# Altium schematic symbol library Capacitors.SchLib: 161 symbols (part 3 of 6)
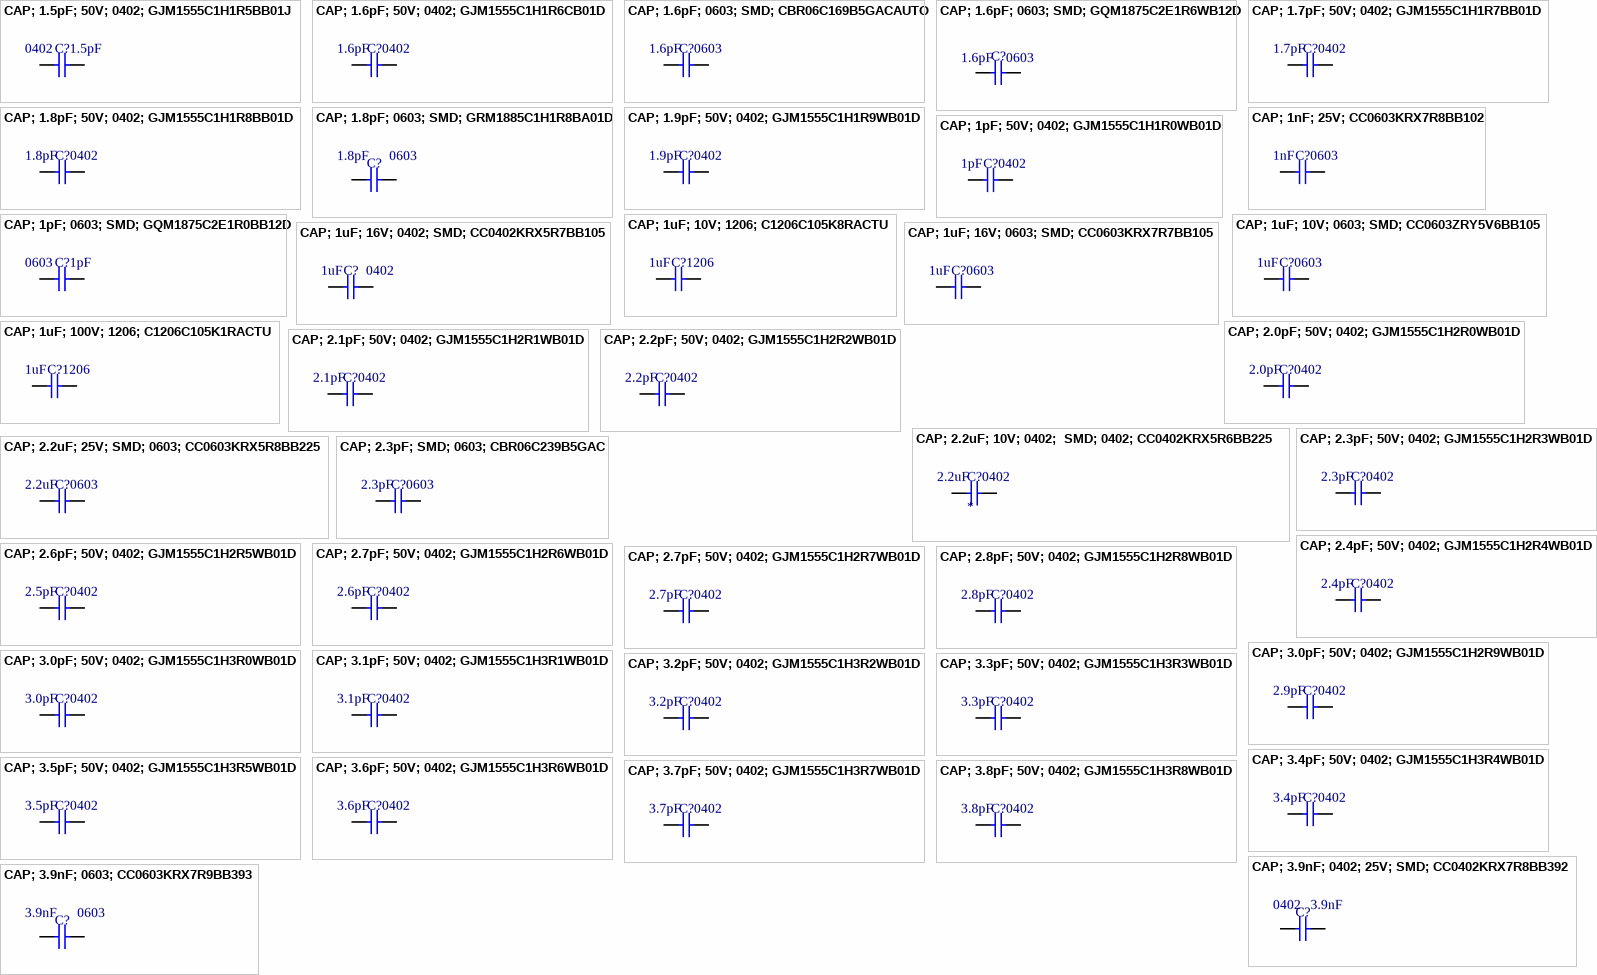
[diagram p6: symbols CAP; 1.5pF; 50V; 0402; GJM1555C1H1R5BB01J to CAP; 3.9nF; 0603; CC0603KRX7R9BB393]

## CAP; 2.2pF; 50V; 0402; GJM1555C1H2R2WB01D
designator C?, comment value 2.2pF  Package: 0402  (hidden comment: CAP CER 2.2PF 50V C0G/NP0 0402)
Manufacturer: Murata; Manufacturer Part Number: GJM1555C1H2R2WB01D; Material: 4241ConductorMaterial; Dielectric: C0G; Temperature Coefficient: 30ppm/°C; Supplier: Mouser; Supplier Part Number: 81-GJM1555C1H2R2WB1D; RoHS: Yes; Category: Ceramic Capacitors; Stock: 25459; Pricing: 1=0.16, 10=0.097, 50=0.097, 100=0.046, 1000=0.044, 10000=0.021 (USD); Mounting Technology: Surface Mount; Case/Package: 0402; Case Code (Imperial): 0402; Case Code (Metric): 1005; Min Operating Temperature: -55°C; Max Operating Temperature: 125°C; Package Quantity: 10000; Packaging: Tape and Reel; Voltage Rating: 50V; Termination: SMD/SMT; Voltage Rating (DC): 50V; Series: GJM; Construction: Flat; Length: 0.039inch; Width: 0.02inch; Height: 0.5mm; Thickness: 0.022inch; Depth: 0.5mm; Radiation Hardening: No; Lead Free: Lead Free; RoHS Compliant: Yes; ComponentLink1URL: http://www.farnell.com/datasheets/2867764.pdf?src-supplier=Farnell; ComponentLink1Description: http://www.farnell.com/datasheets/2867764.pdf?src-supplier=Farnell; ComponentLink2URL: http://www.mouser.com/ds/2/281/c02e-2905.pdf?src-supplier=Mouser; ComponentLink2Description: http://www.mouser.com/ds/2/281/c02e-2905.pdf?src-supplier=Mouser; ComponentLink3URL: https://datasheet.octopart.com/GJM1555C1H2R2WB01D-Murata-datasheet-22122223.pdf?src-supplier=Future+Electronics; ComponentLink3Description: https://datasheet.octopart.com/GJM1555C1H2R2WB01D-Murata-datasheet-22122223.pdf?src-supplier=Future+Electronics; ComponentLink4URL: https://datasheet.octopart.com/GJM1555C1H2R2WB01D-Murata-datasheet-96711499.pdf?src-supplier=Element14; ComponentLink4Description: https://datasheet.octopart.com/GJM1555C1H2R2WB01D-Murata-datasheet-96711499.pdf?src-supplier=Element14; ComponentLink5URL: http://search.murata.co.jp/Ceramy/image/img/A01X/G101/ENG/GJM1555C1H2R2WB01-01.pdf?src-supplier=Digikey; ComponentLink5Description: http://search.murata.co.jp/Ceramy/image/img/A01X/G101/ENG/GJM1555C1H2R2WB01-01.pdf?src-supplier=Digikey; ComponentLink6URL: http://search.murata.co.jp/Ceramy/image/img/A01X/partnumbering_e_01.pdf?src-supplier=Digikey; ComponentLink6Description: http://search.murata.co.jp/Ceramy/image/img/A01X/partnumbering_e_01.pdf?src-supplier=Digikey; ComponentLink7URL: http://search.murata.co.jp/Ceramy/image/img/PDF/ENG/GJM1555C1H2R2WB01.pdf?src-supplier=Avnet; ComponentLink7Description: http://search.murata.co.jp/Ceramy/image/img/PDF/ENG/GJM1555C1H2R2WB01.pdf?src-supplier=Avnet; ComponentLink8URL: https://datasheet.octopart.com/GJM1555C1H2R2WB01D-Murata-datasheet-12511495.pdf?src-supplier=TME; ComponentLink8Description: https://datasheet.octopart.com/GJM1555C1H2R2WB01D-Murata-datasheet-12511495.pdf?src-supplier=TME
footprint SMD-CAP-0402-ME
pins: 1, 2

## CAP; 2.2uF; 10V; 0402;  SMD; 0402; CC0402KRX5R6BB225
designator C?  value 2.2uF  Package: 0402
CC Series 0402 2.2 uF 10 V ±10% Tolerance X5R Multilayer Ceramic Capacitor; Manufacturer: Yageo; Manufacturer Part Number: CC0402KRX5R6BB225; Material: 4241ConductorMaterial; Temperature Coefficient: 30ppm/°C; Supplier: Future Electronics; Supplier Part Number: 8108657; RoHS: Yes; Category: Ceramic Capacitors; Stock: 330000; Pricing: 10000=0.0082, 30000=0.008, 40000=0.0079, 100000=0.0077, 150000=0.0075 (USD); Lead Free: 5697LeadFree; Halogen Free: 5694HalogenFree; RoHS Compliant: 5897YesNo; ComponentLink1URL: http://www.mouser.com/ds/2/447/Yageo_UPY-GP_NP0_16V-to-50V_9-358835.pdf?src-supplier=Mouser; ComponentLink1Description: http://www.mouser.com/ds/2/447/Yageo_UPY-GP_NP0_16V-to-50V_9-358835.pdf?src-supplier=Mouser; ComponentLink2URL: https://datasheet.octopart.com/CC0402KRX5R6BB225-Yageo-datasheet-140260304.pdf?src-supplier=Newark; ComponentLink2Description: https://datasheet.octopart.com/CC0402KRX5R6BB225-Yageo-datasheet-140260304.pdf?src-supplier=Newark; ComponentLink3URL: https://www.yageo.com/upload/media/product/productsearch/datasheet/mlcc/UPY-GPHC_X5R_4V-to-50V_26.pdf?src-supplier=Digikey; ComponentLink3Description: https://www.yageo.com/upload/media/product/productsearch/datasheet/mlcc/UPY-GPHC_X5R_4V-to-50V_26.pdf?src-supplier=Digikey; ComponentLink4URL: http://www.yageo.com/exep/pages/download/literatures/ProductSelectionGuide%202014_Final_2.pdf?src-supplier=Digikey; ComponentLink4Description: http://www.yageo.com/exep/pages/download/literatures/ProductSelectionGuide%202014_Final_2.pdf?src-supplier=Digikey
footprint SMD-CAP-0402-YAGEO
pins: 1, 2

## CAP; 2.2uF; 25V; SMD; 0603; CC0603KRX5R8BB225
designator C?, comment value 2.2uF  Package: 0603  (hidden comment: 2.2 µF ±10% 25V Ceramic Capacitor X5R 0603 (1608 Metric))
0603 2.2 uF 25 V ±10% Tolerance X5R SMT Multilayer Ceramic Capacitor; Manufacturer: Yageo; Manufacturer Part Number: CC0603KRX5R8BB225; Material: 4241ConductorMaterial; Designer: TVBac; Supplier: Future Electronics; Supplier Part Number: 2077058; RoHS: Yes; Category: Ceramic Capacitors; Stock: 108000; Pricing: 4000=0.0441, 8000=0.0434, 12000=0.0429, 16000=0.0426, 20000=0.0417 (USD); Height: 900um; Halogen Free: 5694HalogenFree; Lead Free: 5697LeadFree; ComponentLink1URL: https://datasheet.ciiva.com/26936/getdatasheetpartid-782757-26936061.pdf?src-supplier=Verical; ComponentLink1Description: https://datasheet.ciiva.com/26936/getdatasheetpartid-782757-26936061.pdf?src-supplier=Verical
footprint SMD-CAP-0603-YAGEO
pins: 1, 2

## CAP; 2.3pF; 50V; 0402; GJM1555C1H2R3WB01D
designator C?, comment value 2.3pF  Package: 0402  (hidden comment: Cap Ceramic 2.3pF 50V C0G 0.05pF SMD 0402 125°C Paper T/R)
Manufacturer: Murata; Manufacturer Part Number: GJM1555C1H2R3WB01D; Supplier: Digikey; Supplier Part Number: 490-GJM1555C1H2R3WB01DCT-ND; RoHS: Yes; Category: Ceramic Capacitors; Stock: 6538; Pricing: 1=0.14, 10=0.079, 100=0.0478, 1000=0.03203, 2500=0.02812, 5000=0.02609, 10000=0.02383, 20000=0.02223, 30000=0.02144, 50000=0.02055, 70000=0.02004, 100000=0.01954, 250000=0.01933 (USD); ComponentLink1URL: https://datasheet.ciiva.com/169/product-169614.pdf?src-supplier=Digikey; ComponentLink1Description: https://datasheet.ciiva.com/169/product-169614.pdf?src-supplier=Digikey; Case Code (Imperial): 0402
footprint SMD-CAP-0402-ME
pins: 1, 2

## CAP; 2.3pF; SMD; 0603; CBR06C239B5GAC
designator C?, comment value 2.3pF  Package: 0603  (hidden comment: 2.3 pF ±0.1pF 50V Ceramic Capacitor C0G, NP0 0603 (1608 Metric))
Cap Ceramic 2.3pF 50V C0G 0.1pF SMD 0603 125°C Paper T/R; Manufacturer: KEMET; Manufacturer Part Number: CBR06C239B5GAC; Designer: TVBac; Supplier: Mouser; Supplier Part Number: 80-CBR06C239B5GAC; RoHS: Yes; Category: Ceramic Capacitors; Stock: 14255; Pricing: 1=0.23, 10=0.093, 50=0.093, 100=0.081, 1000=0.055, 10000=0.037 (USD); Mounting Technology: Surface Mount; Case/Package: 0603; Case Code (Imperial): 0603; Case Code (Metric): 1608; Min Operating Temperature: -55°C; Max Operating Temperature: 125°C; Packaging: Cut Tape; Voltage Rating: 50V; Series: HiQ-CBR; RoHS Compliant: Yes; ComponentLink1URL: https://api.kemet.com/component-edge/download/datasheet/CBR06C239B5GAC.pdf?src-supplier=Digikey; ComponentLink1Description: https://api.kemet.com/component-edge/download/datasheet/CBR06C239B5GAC.pdf?src-supplier=Digikey
footprint SMD-CAP-0603-KEMET
pins: 1, 2

## CAP; 2.4pF; 50V; 0402; GJM1555C1H2R4WB01D
designator C?, comment value 2.4pF  Package: 0402  (hidden comment: Multilayer Ceramic Capacitor, 2.4 pF, 50 V, ± 0.05pF, C0G (NP0), 0402 [1005 Metric])
Manufacturer: Murata; Manufacturer Part Number: GJM1555C1H2R4WB01D; Material: 4241ConductorMaterial; Temperature Coefficient: 30ppm/°C; Supplier: Mouser; Supplier Part Number: 81-GJM1555C1H2R4WB1D; RoHS: Yes; Category: Ceramic Capacitors; Stock: 2047; Pricing: 1=0.16, 10=0.081, 50=0.081, 100=0.055, 1000=0.044, 10000=0.022 (USD); Lead Free: 5697LeadFree; ComponentLink1URL: http://www.mouser.com/ds/2/281/Murata%20GJM%20Series-1149669.pdf?src-supplier=Mouser; ComponentLink1Description: http://www.mouser.com/ds/2/281/Murata%20GJM%20Series-1149669.pdf?src-supplier=Mouser; ComponentLink2URL: http://search.murata.co.jp/Ceramy/image/img/PDF/ENG/GJM1555C1H2R4WB01.pdf?src-supplier=Avnet; ComponentLink2Description: http://search.murata.co.jp/Ceramy/image/img/PDF/ENG/GJM1555C1H2R4WB01.pdf?src-supplier=Avnet; ComponentLink3URL: https://search.murata.co.jp/Ceramy/image/img/A01X/G101/ENG/GJM1555C1H2R4WB01-01.pdf?src-supplier=Digikey; ComponentLink3Description: https://search.murata.co.jp/Ceramy/image/img/A01X/G101/ENG/GJM1555C1H2R4WB01-01.pdf?src-supplier=Digikey; ComponentLink4URL: http://search.murata.co.jp/Ceramy/image/img/A01X/G101/ENG/GJM1555C1H2R4WB01-01.pdf?src-supplier=Digikey; ComponentLink4Description: http://search.murata.co.jp/Ceramy/image/img/A01X/G101/ENG/GJM1555C1H2R4WB01-01.pdf?src-supplier=Digikey; ComponentLink5URL: https://datasheet.octopart.com/GJM1555C1H2R4WB01D-Murata-datasheet-22122223.pdf?src-supplier=Future+Electronics; ComponentLink5Description: https://datasheet.octopart.com/GJM1555C1H2R4WB01D-Murata-datasheet-22122223.pdf?src-supplier=Future+Electronics; ComponentLink6URL: https://datasheet.octopart.com/GJM1555C1H2R4WB01D-Murata-datasheet-12511495.pdf?src-supplier=TME; ComponentLink6Description: https://datasheet.octopart.com/GJM1555C1H2R4WB01D-Murata-datasheet-12511495.pdf?src-supplier=TME; Case Code (Imperial): 0402
footprint SMD-CAP-0402-ME
pins: 1, 2

## CAP; 2.6pF; 50V; 0402; GJM1555C1H2R5WB01D
designator C?, comment value 2.5pF  Package: 0402  (hidden comment: Multilayer Ceramic Capacitor, 2.5 pF, 50 V, ± 0.05pF, C0G (NP0), 0402 [1005 Metric])
Manufacturer: Murata; Manufacturer Part Number: GJM1555C1H2R5WB01D; Material: 4241ConductorMaterial; Voltage Rating: 50V; Temperature Coefficient: 30ppm/°C; Supplier: Mouser; Supplier Part Number: 81-GJM1555C1H2R5WB1D; RoHS: Yes; Category: Ceramic Capacitors; Stock: 42973; Pricing: 1=0.13, 10=0.079, 50=0.079, 100=0.046, 1000=0.04, 10000=0.025 (USD); Mounting Technology: Surface Mount; Case/Package: 0402; Case Code (Imperial): 0402; Case Code (Metric): 1005; Min Operating Temperature: -55°C; Max Operating Temperature: 125°C; Voltage Rating (DC): 50V; Packaging: Tape and Reel; Package Quantity: 10000; Dielectric: C0G; Termination: SMD/SMT; Series: GJM; Construction: Flat; Length: 1mm; Width: 0.02inch; Height: 0.5mm; Thickness: 0.022inch; Depth: 0.5mm; Radiation Hardening: No; RoHS Compliant: Yes; ComponentLink1URL: https://datasheet.ciiva.com/169/product-169615.pdf?src-supplier=Digikey; ComponentLink1Description: https://datasheet.ciiva.com/169/product-169615.pdf?src-supplier=Digikey
footprint SMD-CAP-0402-ME
pins: 1, 2

## CAP; 2.7pF; 50V; 0402; GJM1555C1H2R6WB01D
designator C?, comment value 2.6pF  Package: 0402  (hidden comment: Cap Ceramic 2.6pF 50V C0G 0.05pF SMD 0402 125°C Paper T/R)
Manufacturer: Murata; Manufacturer Part Number: GJM1555C1H2R6WB01D; Supplier: Mouser; Supplier Part Number: 81-GJM1555C1H2R6WB1D; RoHS: Yes; Category: Ceramic Capacitors; Stock: 24603; Pricing: 1=0.13, 10=0.078, 50=0.078, 100=0.049, 1000=0.032, 10000=0.022 (USD); ComponentLink1URL: https://datasheet.ciiva.com/169/product-169616.pdf?src-supplier=Digikey; ComponentLink1Description: https://datasheet.ciiva.com/169/product-169616.pdf?src-supplier=Digikey; Case Code (Imperial): 0402
footprint SMD-CAP-0402-ME
pins: 1, 2

## CAP; 2.7pF; 50V; 0402; GJM1555C1H2R7WB01D
designator C?, comment value 2.7pF  Package: 0402  (hidden comment: Multilayer Ceramic Capacitor, 2.7 pF, 50 V, ï¿½ 0.05pF, C0G (NP0), 0402 [1005 Metric])
Manufacturer: Murata; Manufacturer Part Number: GJM1555C1H2R7WB01D; Material: 4241ConductorMaterial; Voltage Rating: 50V; Temperature Coefficient: 30ppm/°C; Supplier: Mouser; Supplier Part Number: 81-GJM1555C1H2R7WB1D; RoHS: Yes; Category: Ceramic Capacitors; Stock: 26643; Pricing: 1=0.16, 10=0.097, 50=0.097, 100=0.055, 1000=0.044, 10000=0.026 (USD); Mounting Technology: Surface Mount; Case/Package: 0402; Case Code (Imperial): 0402; Case Code (Metric): 1005; Min Operating Temperature: -55°C; Max Operating Temperature: 125°C; Packaging: Tape and Reel; Voltage Rating (DC): 50V; Package Quantity: 10000; Dielectric: C0G; Termination: SMD/SMT; Series: GJM; Construction: Flat; Length: 1mm; Width: 0.02inch; Height: 0.5mm; Thickness: 0.022inch; Depth: 0.5mm; Radiation Hardening: No; Lead Free: Lead Free; RoHS Compliant: Yes; ComponentLink1URL: http://www.farnell.com/datasheets/2356152.pdf?src-supplier=Farnell; ComponentLink1Description: http://www.farnell.com/datasheets/2356152.pdf?src-supplier=Farnell; ComponentLink2URL: http://www.mouser.com/ds/2/281/Murata%20GJM%20Series-1149669.pdf?src-supplier=Mouser; ComponentLink2Description: http://www.mouser.com/ds/2/281/Murata%20GJM%20Series-1149669.pdf?src-supplier=Mouser; ComponentLink3URL: https://datasheet.octopart.com/GJM1555C1H2R7WB01D-Murata-datasheet-96711501.pdf?src-supplier=Element14; ComponentLink3Description: https://datasheet.octopart.com/GJM1555C1H2R7WB01D-Murata-datasheet-96711501.pdf?src-supplier=Element14; ComponentLink4URL: http://search.murata.co.jp/Ceramy/image/img/A01X/G101/ENG/GJM1555C1H2R7WB01-01.pdf?src-supplier=Digikey; ComponentLink4Description: http://search.murata.co.jp/Ceramy/image/img/A01X/G101/ENG/GJM1555C1H2R7WB01-01.pdf?src-supplier=Digikey; ComponentLink5URL: https://search.murata.co.jp/Ceramy/image/img/A01X/G101/ENG/GJM1555C1H2R7WB01-01.pdf?src-supplier=Digikey; ComponentLink5Description: https://search.murata.co.jp/Ceramy/image/img/A01X/G101/ENG/GJM1555C1H2R7WB01-01.pdf?src-supplier=Digikey; ComponentLink6URL: http://search.murata.co.jp/Ceramy/image/img/A01X/partnumbering_e_01.pdf?src-supplier=Digikey; ComponentLink6Description: http://search.murata.co.jp/Ceramy/image/img/A01X/partnumbering_e_01.pdf?src-supplier=Digikey; ComponentLink7URL: https://datasheet.octopart.com/GJM1555C1H2R7WB01D-Murata-datasheet-22122223.pdf?src-supplier=Future+Electronics; ComponentLink7Description: https://datasheet.octopart.com/GJM1555C1H2R7WB01D-Murata-datasheet-22122223.pdf?src-supplier=Future+Electronics; ComponentLink8URL: http://search.murata.co.jp/Ceramy/image/img/PDF/ENG/GJM1555C1H2R7WB01.pdf?src-supplier=Avnet; ComponentLink8Description: http://search.murata.co.jp/Ceramy/image/img/PDF/ENG/GJM1555C1H2R7WB01.pdf?src-supplier=Avnet; ComponentLink9URL: https://datasheet.octopart.com/GJM1555C1H2R7WB01D-Murata-datasheet-12511495.pdf?src-supplier=TME; ComponentLink9Description: https://datasheet.octopart.com/GJM1555C1H2R7WB01D-Murata-datasheet-12511495.pdf?src-supplier=TME
footprint SMD-CAP-0402-ME
pins: 1, 2

## CAP; 2.8pF; 50V; 0402; GJM1555C1H2R8WB01D
designator C?, comment value 2.8pF  Package: 0402  (hidden comment: Cap Ceramic 2.8pF 50V C0G 0.05pF SMD 0402 125°C Paper T/R)
Manufacturer: Murata; Manufacturer Part Number: GJM1555C1H2R8WB01D; Supplier: Mouser; Supplier Part Number: 81-GJM1555C1H2R8WB1D; RoHS: Yes; Category: Ceramic Capacitors; Stock: 5590; Pricing: 1=0.12, 10=0.074, 50=0.074, 100=0.048, 1000=0.033, 10000=0.027 (USD); ComponentLink1URL: https://datasheet.ciiva.com/169/product-169617.pdf?src-supplier=Digikey; ComponentLink1Description: https://datasheet.ciiva.com/169/product-169617.pdf?src-supplier=Digikey; Case Code (Imperial): 0402
footprint SMD-CAP-0402-ME
pins: 1, 2

## CAP; 3.0pF; 50V; 0402; GJM1555C1H2R9WB01D
designator C?, comment value 2.9pF  Package: 0402  (hidden comment: Cap Ceramic 2.9pF 50V C0G 0.05pF SMD 0402 125°C Paper T/R)
Manufacturer: Murata; Manufacturer Part Number: GJM1555C1H2R9WB01D; Supplier: Mouser; Supplier Part Number: 81-GJM1555C1H2R9WB1D; RoHS: Yes; Category: Ceramic Capacitors; Stock: 27950; Pricing: 1=0.12, 10=0.074, 50=0.074, 100=0.049, 1000=0.032, 10000=0.026 (USD); ComponentLink1URL: https://datasheet.ciiva.com/169/product-169618.pdf?src-supplier=Digikey; ComponentLink1Description: https://datasheet.ciiva.com/169/product-169618.pdf?src-supplier=Digikey; Case Code (Imperial): 0402
footprint SMD-CAP-0402-ME
pins: 1, 2

## CAP; 3.0pF; 50V; 0402; GJM1555C1H3R0WB01D
designator C?, comment value 3.0pF  Package: 0402  (hidden comment: Multilayer Ceramic Capacitor, 3 pF, 50 V, ± 0.05pF, C0G (NP0), 0402 [1005 Metric])
Manufacturer: Murata; Manufacturer Part Number: GJM1555C1H3R0WB01D; Material: 4241ConductorMaterial; Voltage Rating: 50V; Temperature Coefficient: 30ppm/°C; Supplier: Mouser; Supplier Part Number: 81-GJM1555C1H3R0WB1D; RoHS: Yes; Category: Ceramic Capacitors; Stock: 18153; Pricing: 1=0.16, 10=0.097, 50=0.097, 100=0.055, 1000=0.053, 10000=0.022 (USD); Mounting Technology: Surface Mount; Case/Package: 0402; Case Code (Imperial): 0402; Case Code (Metric): 1005; Min Operating Temperature: -55°C; Max Operating Temperature: 125°C; Package Quantity: 10000; Packaging: Tape and Reel; Dielectric: C0G; Voltage Rating (DC): 50V; Termination: SMD/SMT; Series: GJM; Construction: Flat; Length: 1mm; Width: 0.02inch; Height: 0.5mm; Thickness: 0.022inch; Depth: 0.5mm; Radiation Hardening: No; RoHS Compliant: Yes; ComponentLink1URL: http://www.mouser.com/ds/2/281/c02e-2905.pdf?src-supplier=Mouser; ComponentLink1Description: http://www.mouser.com/ds/2/281/c02e-2905.pdf?src-supplier=Mouser; ComponentLink2URL: http://search.murata.co.jp/Ceramy/image/img/A01X/G101/ENG/GJM1555C1H3R0WB01-01.pdf?src-supplier=Digikey; ComponentLink2Description: http://search.murata.co.jp/Ceramy/image/img/A01X/G101/ENG/GJM1555C1H3R0WB01-01.pdf?src-supplier=Digikey; ComponentLink3URL: http://search.murata.co.jp/Ceramy/image/img/A01X/partnumbering_e_01.pdf?src-supplier=Digikey; ComponentLink3Description: http://search.murata.co.jp/Ceramy/image/img/A01X/partnumbering_e_01.pdf?src-supplier=Digikey; ComponentLink4URL: http://search.murata.co.jp/Ceramy/image/img/PDF/ENG/GJM1555C1H3R0WB01.pdf?src-supplier=Avnet; ComponentLink4Description: http://search.murata.co.jp/Ceramy/image/img/PDF/ENG/GJM1555C1H3R0WB01.pdf?src-supplier=Avnet; ComponentLink5URL: http://components.arrow.com/part/dataview/46522145S277297N2606?src-supplier=Arrow+Electronics; ComponentLink5Description: http://components.arrow.com/part/dataview/46522145S277297N2606?src-supplier=Arrow+Electronics; ComponentLink6URL: https://datasheet.octopart.com/GJM1555C1H3R0WB01D-Murata-datasheet-12511495.pdf?src-supplier=TME; ComponentLink6Description: https://datasheet.octopart.com/GJM1555C1H3R0WB01D-Murata-datasheet-12511495.pdf?src-supplier=TME
footprint SMD-CAP-0402-ME
pins: 1, 2

## CAP; 3.1pF; 50V; 0402; GJM1555C1H3R1WB01D
designator C?, comment value 3.1pF  Package: 0402  (hidden comment: Cap Ceramic 3.1pF 50V C0G 0.05pF SMD 0402 125°C Paper T/R)
Manufacturer: Murata; Manufacturer Part Number: GJM1555C1H3R1WB01D; Supplier: Mouser; Supplier Part Number: 81-GJM1555C1H3R1WB1D; RoHS: Yes; Category: Ceramic Capacitors; Stock: 19596; Pricing: 1=0.13, 10=0.08, 50=0.08, 100=0.049, 1000=0.032, 10000=0.026 (USD); ComponentLink1URL: https://datasheet.ciiva.com/169/product-169619.pdf?src-supplier=Digikey; ComponentLink1Description: https://datasheet.ciiva.com/169/product-169619.pdf?src-supplier=Digikey; Case Code (Imperial): 0402
footprint SMD-CAP-0402-ME
pins: 1, 2

## CAP; 3.2pF; 50V; 0402; GJM1555C1H3R2WB01D
designator C?, comment value 3.2pF  Package: 0402  (hidden comment: Cap Ceramic 3.2pF 50V C0G 0.05pF SMD 0402 125°C Paper T/R)
Manufacturer: Murata; Manufacturer Part Number: GJM1555C1H3R2WB01D; Supplier: Mouser; Supplier Part Number: 81-GJM1555C1H3R2WB1D; RoHS: Yes; Category: Ceramic Capacitors; Stock: 17873; Pricing: 1=0.13, 10=0.08, 50=0.08, 100=0.049, 1000=0.032, 10000=0.025 (USD); ComponentLink1URL: https://datasheet.ciiva.com/169/product-169620.pdf?src-supplier=Digikey; ComponentLink1Description: https://datasheet.ciiva.com/169/product-169620.pdf?src-supplier=Digikey; Case Code (Imperial): 0402
footprint SMD-CAP-0402-ME
pins: 1, 2

## CAP; 3.3pF; 50V; 0402; GJM1555C1H3R3WB01D
designator C?, comment value 3.3pF  Package: 0402  (hidden comment: Cap Ceramic 3.3pF 50V C0G 0.05pF Pad SMD 0402 125°C T/R)
Manufacturer: Murata; Manufacturer Part Number: GJM1555C1H3R3WB01D; Material: 4241ConductorMaterial; Temperature Coefficient: 30ppm/°C; Supplier: Mouser; Supplier Part Number: 81-GJM1555C1H3R3WB1D; RoHS: Yes; Category: Ceramic Capacitors; Stock: 28477; Pricing: 1=0.12, 10=0.074, 50=0.074, 100=0.049, 1000=0.032, 10000=0.02 (USD); Mounting Technology: Surface Mount; Case/Package: 0402; Case Code (Imperial): 0402; Case Code (Metric): 1005; Min Operating Temperature: -55°C; Max Operating Temperature: 125°C; Packaging: Tape and Reel; Voltage Rating: 50V; Voltage Rating (DC): 50V; Package Quantity: 10000; Dielectric: C0G; Termination: SMD/SMT; Series: GJM; Construction: Flat; Length: 1mm; Width: 0.02inch; Height: 0.5mm; Thickness: 0.022inch; Depth: 0.5mm; Radiation Hardening: No; Lead Free: Lead Free; RoHS Compliant: Yes; ComponentLink1URL: http://www.farnell.com/datasheets/2867768.pdf?src-supplier=Farnell; ComponentLink1Description: http://www.farnell.com/datasheets/2867768.pdf?src-supplier=Farnell; ComponentLink2URL: http://www.mouser.com/ds/2/281/c02e-2905.pdf?src-supplier=Mouser; ComponentLink2Description: http://www.mouser.com/ds/2/281/c02e-2905.pdf?src-supplier=Mouser; ComponentLink3URL: http://www.farnell.com/datasheets/2867768.pdf?src-supplier=Element14; ComponentLink3Description: http://www.farnell.com/datasheets/2867768.pdf?src-supplier=Element14; ComponentLink4URL: https://datasheet.octopart.com/GJM1555C1H3R3WB01D-Murata-datasheet-96711502.pdf?src-supplier=Element14; ComponentLink4Description: https://datasheet.octopart.com/GJM1555C1H3R3WB01D-Murata-datasheet-96711502.pdf?src-supplier=Element14; ComponentLink5URL: http://search.murata.co.jp/Ceramy/image/img/A01X/G101/ENG/GJM1555C1H3R3WB01-01.pdf?src-supplier=Digikey; ComponentLink5Description: http://search.murata.co.jp/Ceramy/image/img/A01X/G101/ENG/GJM1555C1H3R3WB01-01.pdf?src-supplier=Digikey; ComponentLink6URL: https://search.murata.co.jp/Ceramy/image/img/A01X/G101/ENG/GJM1555C1H3R3WB01-01.pdf?src-supplier=Digikey; ComponentLink6Description: https://search.murata.co.jp/Ceramy/image/img/A01X/G101/ENG/GJM1555C1H3R3WB01-01.pdf?src-supplier=Digikey; ComponentLink7URL: https://datasheet.octopart.com/GJM1555C1H3R3WB01D-Murata-datasheet-22122223.pdf?src-supplier=Future+Electronics; ComponentLink7Description: https://datasheet.octopart.com/GJM1555C1H3R3WB01D-Murata-datasheet-22122223.pdf?src-supplier=Future+Electronics; ComponentLink8URL: http://search.murata.co.jp/Ceramy/image/img/PDF/ENG/GJM1555C1H3R3WB01.pdf?src-supplier=Avnet; ComponentLink8Description: http://search.murata.co.jp/Ceramy/image/img/PDF/ENG/GJM1555C1H3R3WB01.pdf?src-supplier=Avnet; ComponentLink9URL: https://datasheet.octopart.com/GJM1555C1H3R3WB01D-Murata-datasheet-165579666.pdf?src-supplier=TME; ComponentLink9Description: https://datasheet.octopart.com/GJM1555C1H3R3WB01D-Murata-datasheet-165579666.pdf?src-supplier=TME
footprint SMD-CAP-0402-ME
pins: 1, 2

## CAP; 3.4pF; 50V; 0402; GJM1555C1H3R4WB01D
designator C?, comment value 3.4pF  Package: 0402  (hidden comment: Cap Ceramic 3.4pF 50V C0G 0.05pF SMD 0402 125°C Paper T/R)
Manufacturer: Murata; Manufacturer Part Number: GJM1555C1H3R4WB01D; Supplier: Mouser; Supplier Part Number: 81-GJM1555C1H3R4WB1D; RoHS: Yes; Category: Ceramic Capacitors; Stock: 21839; Pricing: 1=0.13, 10=0.08, 50=0.08, 100=0.049, 1000=0.032, 10000=0.026 (USD); ComponentLink1URL: https://datasheet.ciiva.com/169/product-169621.pdf?src-supplier=Digikey; ComponentLink1Description: https://datasheet.ciiva.com/169/product-169621.pdf?src-supplier=Digikey; Case Code (Imperial): 0402
footprint SMD-CAP-0402-ME
pins: 1, 2

## CAP; 3.5pF; 50V; 0402; GJM1555C1H3R5WB01D
designator C?, comment value 3.5pF  Package: 0402  (hidden comment: Cap Ceramic 3.5pF 50V C0G 0.05pF SMD 0402 125°C Paper T/R)
Manufacturer: Murata; Manufacturer Part Number: GJM1555C1H3R5WB01D; Supplier: Mouser; Supplier Part Number: 81-GJM1555C1H3R5WB1D; RoHS: Yes; Category: Ceramic Capacitors; Stock: 24680; Pricing: 1=0.12, 10=0.074, 50=0.074, 100=0.049, 1000=0.032, 10000=0.022 (USD); ComponentLink1URL: https://datasheet.ciiva.com/169/product-169622.pdf?src-supplier=Digikey; ComponentLink1Description: https://datasheet.ciiva.com/169/product-169622.pdf?src-supplier=Digikey; Case Code (Imperial): 0402
footprint SMD-CAP-0402-ME
pins: 1, 2

## CAP; 3.6pF; 50V; 0402; GJM1555C1H3R6WB01D
designator C?, comment value 3.6pF  Package: 0402  (hidden comment: 0402 3.6 pF 50 V ±0.05 pF Tolerance C0G/NP0 SMT Multilayer Ceramic Capacitor)
Manufacturer: Murata; Manufacturer Part Number: GJM1555C1H3R6WB01D; Supplier: Mouser; Supplier Part Number: 81-GJM1555C1H3R6WB1D; RoHS: Yes; Category: Ceramic Capacitors; Stock: 10828; Pricing: 1=0.12, 10=0.074, 50=0.074, 100=0.049, 1000=0.032, 10000=0.022 (USD); ComponentLink1URL: https://datasheet.ciiva.com/11614/product-11614035.pdf?src-supplier=Avnet; ComponentLink1Description: https://datasheet.ciiva.com/11614/product-11614035.pdf?src-supplier=Avnet; Case Code (Imperial): 0402
footprint SMD-CAP-0402-ME
pins: 1, 2

## CAP; 3.7pF; 50V; 0402; GJM1555C1H3R7WB01D
designator C?, comment value 3.7pF  Package: 0402  (hidden comment: Cap Ceramic 3.7pF 50V C0G 0.05pF SMD 0402 125°C Paper T/R)
Manufacturer: Murata; Manufacturer Part Number: GJM1555C1H3R7WB01D; Supplier: Mouser; Supplier Part Number: 81-GJM1555C1H3R7WB1D; RoHS: Yes; Category: Ceramic Capacitors; Stock: 19588; Pricing: 1=0.13, 10=0.076, 50=0.076, 100=0.049, 1000=0.032, 10000=0.022 (USD); ComponentLink1URL: https://datasheet.ciiva.com/169/product-169623.pdf?src-supplier=Digikey; ComponentLink1Description: https://datasheet.ciiva.com/169/product-169623.pdf?src-supplier=Digikey; Case Code (Imperial): 0402
footprint SMD-CAP-0402-ME
pins: 1, 2

## CAP; 3.8pF; 50V; 0402; GJM1555C1H3R8WB01D
designator C?, comment value 3.8pF  Package: 0402  (hidden comment: Cap Ceramic 3.8pF 50V C0G 0.05pF SMD 0402 125°C Paper T/R)
Manufacturer: Murata; Manufacturer Part Number: GJM1555C1H3R8WB01D; Supplier: Mouser; Supplier Part Number: 81-GJM1555C1H3R8WB1D; RoHS: Yes; Category: Ceramic Capacitors; Stock: 9296; Pricing: 1=0.12, 10=0.074, 50=0.074, 100=0.049, 1000=0.032, 10000=0.022 (USD); ComponentLink1URL: https://datasheet.ciiva.com/11613/product-11613668.pdf?src-supplier=Avnet; ComponentLink1Description: https://datasheet.ciiva.com/11613/product-11613668.pdf?src-supplier=Avnet; ComponentLink2URL: https://datasheet.ciiva.com/169/partnumbering-e-01-169624.pdf?src-supplier=Digikey; ComponentLink2Description: https://datasheet.ciiva.com/169/partnumbering-e-01-169624.pdf?src-supplier=Digikey; Case Code (Imperial): 0402
footprint SMD-CAP-0402-ME
pins: 1, 2

## CAP; 3.9nF; 0402; 25V; SMD; CC0402KRX7R8BB392
designator C?, comment value 3.9nF  Package: 0402  (hidden comment: 3900 pF ±10% 25V Ceramic Capacitor X7R 0402 (1005 Metric))
CAP CER 3900PF 25V X7R 0402; Manufacturer: Yageo; Manufacturer Part Number: CC0402KRX7R8BB392; Supplier: Future Electronics; Supplier Part Number: 2871176; RoHS: Yes; Category: Ceramic Capacitors; Stock: 10000; Pricing: 10000=0.0024, 40000=0.0023, 100000=0.0023, 250000=0.0022, 400000=0.0021 (USD); ComponentLink1URL: https://datasheet.ciiva.com/143/mlccorderingcode-143974.pdf?src-supplier=Digikey; ComponentLink1Description: https://datasheet.ciiva.com/143/mlccorderingcode-143974.pdf?src-supplier=Digikey; ComponentLink2URL: https://datasheet.ciiva.com/143/mlccorderingcode-143975.pdf?src-supplier=Digikey; ComponentLink2Description: https://datasheet.ciiva.com/143/mlccorderingcode-143975.pdf?src-supplier=Digikey; ComponentLink3URL: https://datasheet.ciiva.com/143/mlccorderingcode-143976.pdf?src-supplier=Digikey; ComponentLink3Description: https://datasheet.ciiva.com/143/mlccorderingcode-143976.pdf?src-supplier=Digikey; ComponentLink4URL: https://datasheet.ciiva.com/11464/upy-gphc-x7r-6-3v-to-50v-8-11464892.pdf?src-supplier=Avnet; ComponentLink4Description: https://datasheet.ciiva.com/11464/upy-gphc-x7r-6-3v-to-50v-8-11464892.pdf?src-supplier=Avnet
footprint SMD-CAP-0402-YAGEO
pins: 1, 2

## CAP; 3.9nF; 0603; CC0603KRX7R9BB393
designator C?, comment value 3.9nF  Package: 0603  (hidden comment: 0.039 µF ±10% 50V Ceramic Capacitor X7R 0603 (1608 Metric))
Multilayer Ceramic Capacitor, 0.039 uF, 50 V, ï¿½ 10%, X7R, 0603 [1608 Metric]; Manufacturer: Yageo; Manufacturer Part Number: CC0603KRX7R9BB393; Supplier: Digikey; Supplier Part Number: 311-3551-1-ND; RoHS: Yes; Category: Ceramic Capacitors; Stock: 7705; Pricing: 1=0.1, 10=0.056, 100=0.0327, 1000=0.02108 (USD); Lead Free: 5697LeadFree; Halogen Free: 5694HalogenFree; RoHS Compliant: 5897YesNo; ComponentLink1URL: https://datasheet.ciiva.com/13208/upy-gphc-x7r-6-3v-to-50v-8-12304-13208810.pdf?src-supplier=Mouser; ComponentLink1Description: https://datasheet.ciiva.com/13208/upy-gphc-x7r-6-3v-to-50v-8-12304-13208810.pdf?src-supplier=Mouser
footprint SMD-CAP-0603-YAGEO
pins: 1, 2

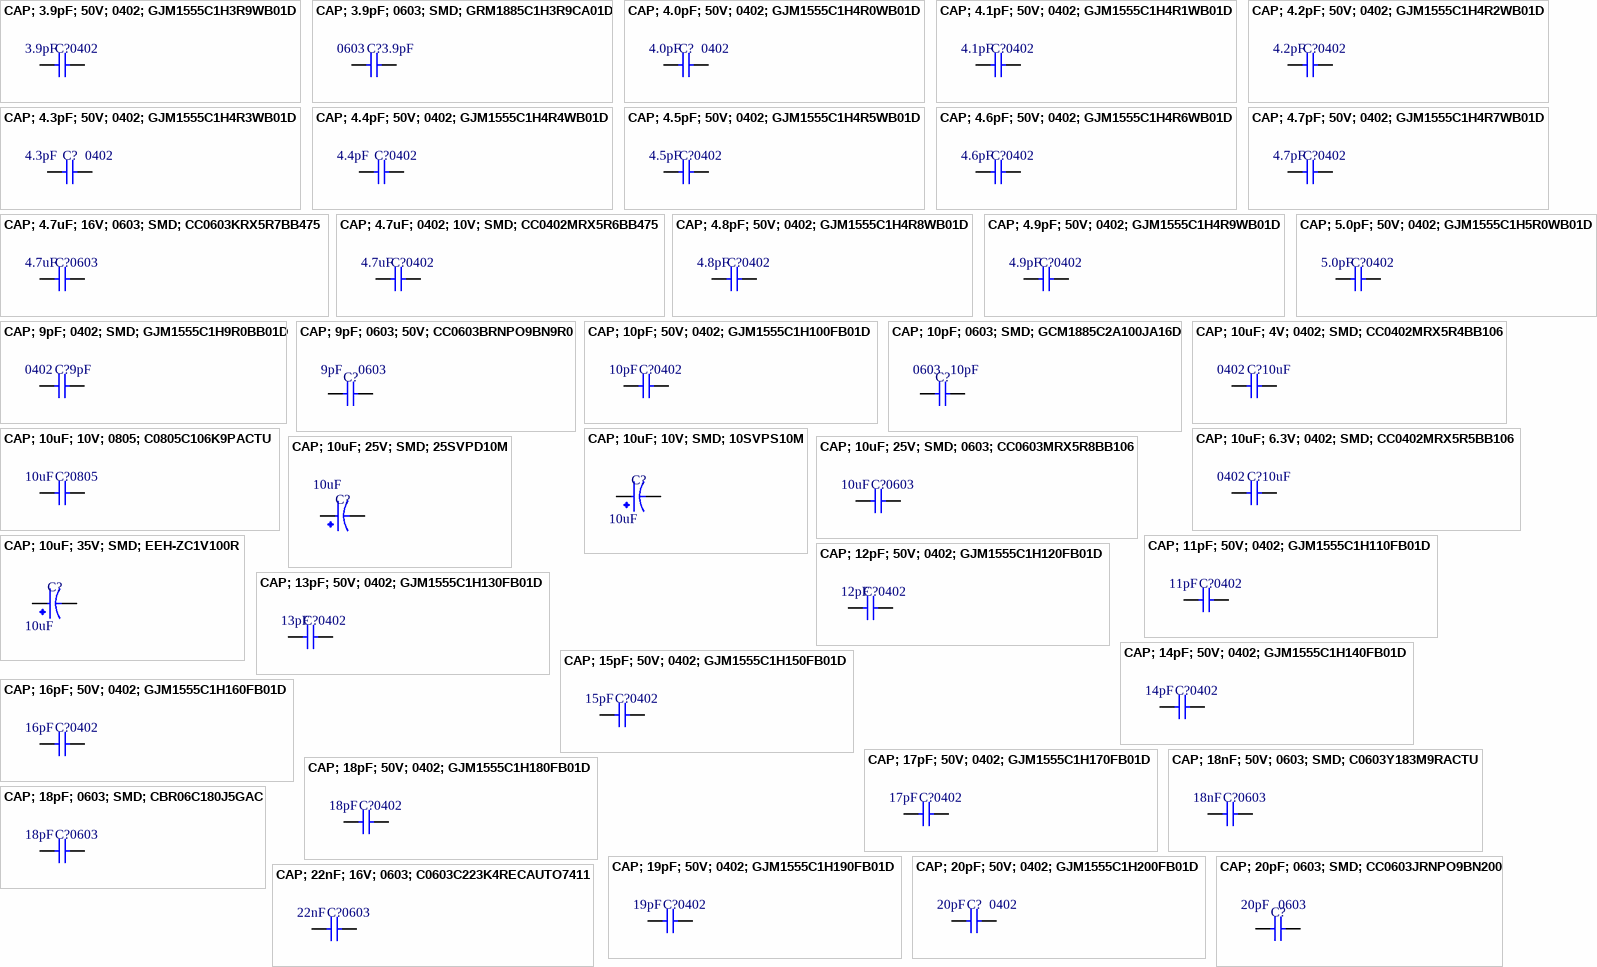
[diagram p2: symbols CAP; 3.9pF; 50V; 0402; GJM1555C1H3R9WB01D to CAP; 22nF; 16V; 0603; C0603C223K4RECAUTO7411]

## CAP; 3.9pF; 50V; 0402; GJM1555C1H3R9WB01D
designator C?, comment value 3.9pF  Package: 0402  (hidden comment: Multilayer Ceramic Capacitor, 3.9 pF, 50 V, ± 0.05pF, C0G (NP0), 0402 [1005 Metric])
Manufacturer: Murata; Manufacturer Part Number: GJM1555C1H3R9WB01D; Material: 4241ConductorMaterial; Voltage Rating: 50V; Temperature Coefficient: 30ppm/°C; Supplier: Mouser; Supplier Part Number: 81-GJM1555C1H3R9WB1D; RoHS: Yes; Category: Ceramic Capacitors; Stock: 17750; Pricing: 1=0.12, 10=0.074, 50=0.074, 100=0.045, 1000=0.032, 10000=0.025 (USD); Mounting Technology: Surface Mount; Case/Package: 0402; Case Code (Imperial): 0402; Case Code (Metric): 1005; Min Operating Temperature: -55°C; Max Operating Temperature: 125°C; Packaging: Tape and Reel; Package Quantity: 10000; Dielectric: C0G; Termination: SMD/SMT; Voltage Rating (DC): 50V; Series: GJM; Construction: Flat; Length: 0.039inch; Width: 0.02inch; Height: 0.5mm; Thickness: 0.022inch; Depth: 0.5mm; Radiation Hardening: No; RoHS Compliant: Yes; ComponentLink1URL: https://datasheet.ciiva.com/11613/product-11613637.pdf?src-supplier=Avnet; ComponentLink1Description: https://datasheet.ciiva.com/11613/product-11613637.pdf?src-supplier=Avnet
footprint SMD-CAP-0402-ME
pins: 1, 2

## CAP; 3.9pF; 0603; SMD; GRM1885C1H3R9CA01D
designator C?, comment value 3.9pF  Package: 0603  (hidden comment: 3.9 pF ±0.25pF 50V Ceramic Capacitor C0G, NP0 0603 (1608 Metric))
CAP CER 3.9PF 50V NP0 0603; Manufacturer: Murata; Manufacturer Part Number: GRM1885C1H3R9CA01D; Supplier: Mouser; Supplier Part Number: 81-GRM1885C1H3R9CA1D; RoHS: Yes; Category: Ceramic Capacitors; Stock: 47409; Pricing: 1=0.11, 10=0.061, 50=0.061, 100=0.037, 1000=0.025, 10000=0.017 (USD); ComponentLink1URL: https://datasheet.ciiva.com/11613/c02e-11613773.pdf?src-supplier=Avnet; ComponentLink1Description: https://datasheet.ciiva.com/11613/c02e-11613773.pdf?src-supplier=Avnet
footprint SMD-CAP-0603-ME
pins: 1, 2

## CAP; 4.0pF; 50V; 0402; GJM1555C1H4R0WB01D
designator C?, comment value 4.0pF  Package: 0402  (hidden comment: Multilayer Ceramic Capacitors MLCC - SMD/SMT 0402 4.0pF 50Volts C0G +/-0.05pF)
Manufacturer: Murata; Manufacturer Part Number: GJM1555C1H4R0WB01D; Material: 4241ConductorMaterial; Temperature Coefficient: 30ppm/°C; Supplier: Mouser; Supplier Part Number: 81-GJM1555C1H4R0WB1D; RoHS: Yes; Category: Ceramic Capacitors; Stock: 36913; Pricing: 1=0.12, 10=0.074, 50=0.074, 100=0.049, 1000=0.032, 10000=0.022 (USD); ComponentLink1URL: http://www.mouser.com/ds/2/281/c02e-2905.pdf?src-supplier=Mouser; ComponentLink1Description: http://www.mouser.com/ds/2/281/c02e-2905.pdf?src-supplier=Mouser; ComponentLink2URL: http://search.murata.co.jp/Ceramy/image/img/A01X/G101/ENG/GJM1555C1H4R0WB01-01.pdf?src-supplier=Digikey; ComponentLink2Description: http://search.murata.co.jp/Ceramy/image/img/A01X/G101/ENG/GJM1555C1H4R0WB01-01.pdf?src-supplier=Digikey; ComponentLink3URL: http://search.murata.co.jp/Ceramy/image/img/A01X/partnumbering_e_01.pdf?src-supplier=Digikey; ComponentLink3Description: http://search.murata.co.jp/Ceramy/image/img/A01X/partnumbering_e_01.pdf?src-supplier=Digikey; ComponentLink4URL: http://psearch.murata.com/capacitor/product/GJM1555C1H4R0WB01%23.pdf?src-supplier=Avnet; ComponentLink4Description: http://psearch.murata.com/capacitor/product/GJM1555C1H4R0WB01%23.pdf?src-supplier=Avnet; ComponentLink5URL: https://datasheet.octopart.com/GJM1555C1H4R0WB01D-Murata-datasheet-12511495.pdf?src-supplier=TME; ComponentLink5Description: https://datasheet.octopart.com/GJM1555C1H4R0WB01D-Murata-datasheet-12511495.pdf?src-supplier=TME; Case Code (Imperial): 0402
footprint SMD-CAP-0402-ME
pins: 1, 2

## CAP; 4.1pF; 50V; 0402; GJM1555C1H4R1WB01D
designator C?, comment value 4.1pF  Package: 0402  (hidden comment: Cap Ceramic 4.1pF 50V C0G 0.05pF SMD 0402 125°C Paper T/R)
Manufacturer: Murata; Manufacturer Part Number: GJM1555C1H4R1WB01D; Supplier: Mouser; Supplier Part Number: 81-GJM1555C1H4R1WB1D; RoHS: Yes; Category: Ceramic Capacitors; Stock: 16408; Pricing: 1=0.12, 10=0.074, 50=0.074, 100=0.049, 1000=0.032, 10000=0.022 (USD); ComponentLink1URL: https://datasheet.ciiva.com/11613/product-11613475.pdf?src-supplier=Avnet; ComponentLink1Description: https://datasheet.ciiva.com/11613/product-11613475.pdf?src-supplier=Avnet; ComponentLink2URL: https://datasheet.ciiva.com/169/partnumbering-e-01-169625.pdf?src-supplier=Digikey; ComponentLink2Description: https://datasheet.ciiva.com/169/partnumbering-e-01-169625.pdf?src-supplier=Digikey; Case Code (Imperial): 0402
footprint SMD-CAP-0402-ME
pins: 1, 2

## CAP; 4.2pF; 50V; 0402; GJM1555C1H4R2WB01D
designator C?, comment value 4.2pF  Package: 0402  (hidden comment: Cap Ceramic 4.2pF 50V C0G 0.05pF SMD 0402 125°C Paper T/R)
Manufacturer: Murata; Manufacturer Part Number: GJM1555C1H4R2WB01D; Supplier: Mouser; Supplier Part Number: 81-GJM1555C1H4R2WB1D; RoHS: Yes; Category: Ceramic Capacitors; Stock: 28471; Pricing: 1=0.12, 10=0.074, 50=0.074, 100=0.049, 1000=0.032, 10000=0.022 (USD); ComponentLink1URL: https://datasheet.ciiva.com/11613/product-11613429.pdf?src-supplier=Avnet; ComponentLink1Description: https://datasheet.ciiva.com/11613/product-11613429.pdf?src-supplier=Avnet; ComponentLink2URL: https://datasheet.ciiva.com/169/partnumbering-e-01-169626.pdf?src-supplier=Digikey; ComponentLink2Description: https://datasheet.ciiva.com/169/partnumbering-e-01-169626.pdf?src-supplier=Digikey; Case Code (Imperial): 0402
footprint SMD-CAP-0402-ME
pins: 1, 2

## CAP; 4.3pF; 50V; 0402; GJM1555C1H4R3WB01D
designator C?, comment value 4.3pF  Package: 0402  (hidden comment: Multilayer Ceramic Capacitor, 4.3 pF, 50 V, ± 0.05pF, C0G (NP0), 0402 [1005 Metric])
Manufacturer: Murata; Manufacturer Part Number: GJM1555C1H4R3WB01D; Material: 4241ConductorMaterial; Temperature Coefficient: 30ppm/°C; Supplier: Mouser; Supplier Part Number: 81-GJM1555C1H4R3WB1D; RoHS: Yes; Category: Ceramic Capacitors; Stock: 11247; Pricing: 1=0.13, 10=0.078, 50=0.078, 100=0.049, 1000=0.032, 10000=0.02 (USD); ComponentLink1URL: https://datasheet.ciiva.com/11613/product-11613520.pdf?src-supplier=Avnet; ComponentLink1Description: https://datasheet.ciiva.com/11613/product-11613520.pdf?src-supplier=Avnet; Case Code (Imperial): 0402
footprint SMD-CAP-0402-ME
pins: 1, 2

## CAP; 4.4pF; 50V; 0402; GJM1555C1H4R4WB01D
designator C?, comment value 4.4pF  Package: 0402  (hidden comment: Cap Ceramic 4.4pF 50V C0G 0.05pF SMD 0402 125°C Paper T/R)
Manufacturer: Murata; Manufacturer Part Number: GJM1555C1H4R4WB01D; Supplier: Mouser; Supplier Part Number: 81-GJM1555C1H4R4WB1D; RoHS: Yes; Category: Ceramic Capacitors; Stock: 14765; Pricing: 1=0.12, 10=0.074, 50=0.074, 100=0.049, 1000=0.032, 10000=0.026 (USD); ComponentLink1URL: https://datasheet.ciiva.com/11613/product-11613313.pdf?src-supplier=Avnet; ComponentLink1Description: https://datasheet.ciiva.com/11613/product-11613313.pdf?src-supplier=Avnet; ComponentLink2URL: https://datasheet.ciiva.com/169/partnumbering-e-01-169627.pdf?src-supplier=Digikey; ComponentLink2Description: https://datasheet.ciiva.com/169/partnumbering-e-01-169627.pdf?src-supplier=Digikey; Case Code (Imperial): 0402
footprint SMD-CAP-0402-ME
pins: 1, 2

## CAP; 4.5pF; 50V; 0402; GJM1555C1H4R5WB01D
designator C?, comment value 4.5pF  Package: 0402  (hidden comment: Cap Ceramic 4.5pF 50V C0G 0.05pF SMD 0402 125°C Paper T/R)
Manufacturer: Murata; Manufacturer Part Number: GJM1555C1H4R5WB01D; Supplier: Mouser; Supplier Part Number: 81-GJM1555C1H4R5WB1D; RoHS: Yes; Category: Ceramic Capacitors; Stock: 18975; Pricing: 1=0.12, 10=0.075, 50=0.075, 100=0.049, 1000=0.032, 10000=0.026 (USD); ComponentLink1URL: https://datasheet.ciiva.com/11613/product-11613137.pdf?src-supplier=Avnet; ComponentLink1Description: https://datasheet.ciiva.com/11613/product-11613137.pdf?src-supplier=Avnet; ComponentLink2URL: https://datasheet.ciiva.com/169/partnumbering-e-01-169628.pdf?src-supplier=Digikey; ComponentLink2Description: https://datasheet.ciiva.com/169/partnumbering-e-01-169628.pdf?src-supplier=Digikey; Case Code (Imperial): 0402
footprint SMD-CAP-0402-ME
pins: 1, 2

## CAP; 4.6pF; 50V; 0402; GJM1555C1H4R6WB01D
designator C?, comment value 4.6pF  Package: 0402  (hidden comment: Cap Ceramic 4.6pF 50V C0G 0.05pF SMD 0402 125°C Paper T/R)
Manufacturer: Murata; Manufacturer Part Number: GJM1555C1H4R6WB01D; Supplier: Mouser; Supplier Part Number: 81-GJM1555C1H4R6WB1D; RoHS: Yes; Category: Ceramic Capacitors; Stock: 19170; Pricing: 1=0.13, 10=0.08, 50=0.08, 100=0.049, 1000=0.032, 10000=0.026 (USD); ComponentLink1URL: https://datasheet.ciiva.com/11613/product-11613092.pdf?src-supplier=Avnet; ComponentLink1Description: https://datasheet.ciiva.com/11613/product-11613092.pdf?src-supplier=Avnet; ComponentLink2URL: https://datasheet.ciiva.com/169/partnumbering-e-01-169629.pdf?src-supplier=Digikey; ComponentLink2Description: https://datasheet.ciiva.com/169/partnumbering-e-01-169629.pdf?src-supplier=Digikey; Case Code (Imperial): 0402
footprint SMD-CAP-0402-ME
pins: 1, 2

## CAP; 4.7pF; 50V; 0402; GJM1555C1H4R7WB01D
designator C?, comment value 4.7pF  Package: 0402  (hidden comment: Multilayer Ceramic Capacitors MLCC - SMD/SMT 0402 4.7pF 50Volts C0G +/-0.05pF)
Manufacturer: Murata; Manufacturer Part Number: GJM1555C1H4R7WB01D; Material: 4241ConductorMaterial; Temperature Coefficient: 30ppm/°C; Supplier: Mouser; Supplier Part Number: 81-GJM1555C1H4R7WB1D; RoHS: Yes; Category: Ceramic Capacitors; Stock: 20374; Pricing: 1=0.13, 10=0.075, 50=0.075, 100=0.048, 1000=0.032, 10000=0.02 (USD); Lead Free: 5697LeadFree; ComponentLink1URL: https://datasheet.ciiva.com/11613/product-11613073.pdf?src-supplier=Avnet; ComponentLink1Description: https://datasheet.ciiva.com/11613/product-11613073.pdf?src-supplier=Avnet; Case Code (Imperial): 0402
footprint SMD-CAP-0402-ME
pins: 1, 2

## CAP; 4.7uF; 16V; 0603; SMD; CC0603KRX5R7BB475
designator C?, comment value 4.7uF  Package: 0603  (hidden comment: 4.7 µF ±10% 16V Ceramic Capacitor X5R 0603 (1608 Metric))
Multilayer Ceramic Capacitor, 4.7 uF, 16 V, ï¿½ 10%, X5R, 0603 [1608 Metric]; Manufacturer: Yageo; Manufacturer Part Number: CC0603KRX5R7BB475; Material: 4241ConductorMaterial; Supplier: Future Electronics; Supplier Part Number: 6016428; RoHS: Yes; Category: Ceramic Capacitors; Stock: 156000; Pricing: 4000=0.02, 12000=0.0195, 20000=0.0193, 40000=0.019, 80000=0.0185 (USD); Mounting Technology: Surface Mount; Case/Package: 0603; Case Code (Imperial): 0603; Case Code (Metric): 1608; Weight: 7.1E-05oz; Min Operating Temperature: -55°C; Max Operating Temperature: 85°C; Voltage Rating: 16V; Voltage Rating (DC): 16V; Tolerance: 10%; Packaging: Tape and Reel; Dielectric: X5R; Termination: SMD/SMT; Series: CC; Length: 1.6mm; Width: 0.8mm; Height: 0.8mm; Lead Free: Lead Free; RoHS Compliant: Yes; Halogen Free: 5694HalogenFree; ComponentLink1URL: http://www.mouser.com/ds/2/447/UPY-GPHC_X5R_4V-to-50V_25-1131599.pdf?src-supplier=Mouser; ComponentLink1Description: http://www.mouser.com/ds/2/447/UPY-GPHC_X5R_4V-to-50V_25-1131599.pdf?src-supplier=Mouser; ComponentLink2URL: http://www.yageo.com/documents/recent/UPY-GPHC_X5R_4V-to-50V_25.pdf?src-supplier=Digikey; ComponentLink2Description: http://www.yageo.com/documents/recent/UPY-GPHC_X5R_4V-to-50V_25.pdf?src-supplier=Digikey; ComponentLink3URL: https://datasheet.octopart.com/CC0603KRX5R7BB475-Yageo-datasheet-158238148.pdf?src-supplier=Newark; ComponentLink3Description: https://datasheet.octopart.com/CC0603KRX5R7BB475-Yageo-datasheet-158238148.pdf?src-supplier=Newark; ComponentLink4URL: https://datasheet.octopart.com/CC0603KRX5R7BB475-Yageo-datasheet-137875056.pdf?src-supplier=Future+Electronics; ComponentLink4Description: https://datasheet.octopart.com/CC0603KRX5R7BB475-Yageo-datasheet-137875056.pdf?src-supplier=Future+Electronics
footprint SMD-CAP-0603-YAGEO
pins: 1, 2

## CAP; 4.7uF; 0402; 10V; SMD; CC0402MRX5R6BB475
designator C?, comment value 4.7uF  Package: 0402  (hidden comment: 4.7 µF ±20% 10V Ceramic Capacitor X5R 0402 (1005 Metric))
0402 4700000 pF 10 V ±20 % Tol. X5R Surface Mount Multilayer Ceramic Capacitor; Manufacturer: Yageo; Manufacturer Part Number: CC0402MRX5R6BB475; Material: 4241ConductorMaterial; Temperature Coefficient: 30ppm/°C; Supplier: Future Electronics; Supplier Part Number: 3078111; RoHS: Yes; Category: Ceramic Capacitors; Stock: 2020000; Pricing: 10000=0.0082, 30000=0.0079, 40000=0.0079, 100000=0.0077, 150000=0.0075 (USD); Mounting Technology: Surface Mount; Case/Package: 0402; Case Code (Metric): 1005; Case Code (Imperial): 0402; Weight: 2.3E-05oz; Min Operating Temperature: -55°C; Max Operating Temperature: 85°C; Packaging: Tape and Reel; Voltage Rating: 10V; Tolerance: 20%; Dielectric: X5R; Termination: SMD/SMT; Voltage Rating (DC): 10V; Package Quantity: 10000; Series: CC; Length: 0.039inch; Width: 0.02inch; Height: 0.5mm; Thickness: 0.022inch; Lead Free: Lead Free; Halogen Free: Halogen Free; RoHS Compliant: Yes; ComponentLink1URL: http://www.mouser.com/ds/2/447/Yageo_UPY-GP_NP0_16V-to-50V_9-358835.pdf?src-supplier=Mouser; ComponentLink1Description: http://www.mouser.com/ds/2/447/Yageo_UPY-GP_NP0_16V-to-50V_9-358835.pdf?src-supplier=Mouser; ComponentLink2URL: http://www.yageo.com/documents/recent/UPY-GPHC_X5R_4V-to-50V_25.pdf?src-supplier=Digikey; ComponentLink2Description: http://www.yageo.com/documents/recent/UPY-GPHC_X5R_4V-to-50V_25.pdf?src-supplier=Digikey; ComponentLink3URL: https://datasheet.octopart.com/CC0402MRX5R6BB475-Yageo-datasheet-140260304.pdf?src-supplier=Newark; ComponentLink3Description: https://datasheet.octopart.com/CC0402MRX5R6BB475-Yageo-datasheet-140260304.pdf?src-supplier=Newark; ComponentLink4URL: https://datasheet.octopart.com/CC0402MRX5R6BB475-Yageo-datasheet-182029487.pdf?src-supplier=Farnell; ComponentLink4Description: https://datasheet.octopart.com/CC0402MRX5R6BB475-Yageo-datasheet-182029487.pdf?src-supplier=Farnell; ComponentLink5URL: https://datasheet.octopart.com/CC0402MRX5R6BB475-Yageo-datasheet-182029487.pdf?src-supplier=Element14; ComponentLink5Description: https://datasheet.octopart.com/CC0402MRX5R6BB475-Yageo-datasheet-182029487.pdf?src-supplier=Element14
footprint SMD-CAP-0402-YAGEO
pins: 1, 2

## CAP; 4.8pF; 50V; 0402; GJM1555C1H4R8WB01D
designator C?, comment value 4.8pF  Package: 0402  (hidden comment: Cap Ceramic 4.8pF 50V C0G 0.05pF SMD 0402 125°C Paper T/R)
Manufacturer: Murata; Manufacturer Part Number: GJM1555C1H4R8WB01D; Supplier: Mouser; Supplier Part Number: 81-GJM1555C1H4R8WB1D; RoHS: Yes; Category: Ceramic Capacitors; Stock: 11269; Pricing: 1=0.12, 10=0.074, 50=0.074, 100=0.049, 1000=0.032, 10000=0.022 (USD); ComponentLink1URL: https://datasheet.ciiva.com/11612/product-11612986.pdf?src-supplier=Avnet; ComponentLink1Description: https://datasheet.ciiva.com/11612/product-11612986.pdf?src-supplier=Avnet; ComponentLink2URL: https://datasheet.ciiva.com/169/partnumbering-e-01-169630.pdf?src-supplier=Digikey; ComponentLink2Description: https://datasheet.ciiva.com/169/partnumbering-e-01-169630.pdf?src-supplier=Digikey; Case Code (Imperial): 0402
footprint SMD-CAP-0402-ME
pins: 1, 2

## CAP; 4.9pF; 50V; 0402; GJM1555C1H4R9WB01D
designator C?, comment value 4.9pF  Package: 0402  (hidden comment: Cap Ceramic 4.9pF 50V C0G 0.05pF SMD 0402 125°C Paper T/R)
Manufacturer: Murata; Manufacturer Part Number: GJM1555C1H4R9WB01D; Supplier: Mouser; Supplier Part Number: 81-GJM1555C1H4R9WB1D; RoHS: Yes; Category: Ceramic Capacitors; Stock: 15082; Pricing: 1=0.15, 10=0.088, 50=0.088, 100=0.049, 1000=0.032, 10000=0.022 (USD); ComponentLink1URL: https://datasheet.ciiva.com/11612/product-11612772.pdf?src-supplier=Avnet; ComponentLink1Description: https://datasheet.ciiva.com/11612/product-11612772.pdf?src-supplier=Avnet; ComponentLink2URL: https://datasheet.ciiva.com/169/partnumbering-e-01-169631.pdf?src-supplier=Digikey; ComponentLink2Description: https://datasheet.ciiva.com/169/partnumbering-e-01-169631.pdf?src-supplier=Digikey; Case Code (Imperial): 0402
footprint SMD-CAP-0402-ME
pins: 1, 2

## CAP; 5.0pF; 50V; 0402; GJM1555C1H5R0WB01D
designator C?, comment value 5.0pF  Package: 0402  (hidden comment: 0402 50V C0G 5pF ±0.05pF multilayer ceramic capacitor)
Manufacturer: Murata; Manufacturer Part Number: GJM1555C1H5R0WB01D; Material: 4241ConductorMaterial; Temperature Coefficient: 30ppm/°C; Supplier: Mouser; Supplier Part Number: 81-GJM1555C1H5R0WB1D; RoHS: Yes; Category: Ceramic Capacitors; Stock: 5891; Pricing: 1=0.17, 10=0.104, 50=0.104, 100=0.055, 1000=0.052, 10000=0.031 (USD); ComponentLink1URL: https://datasheet.ciiva.com/11612/product-11612712.pdf?src-supplier=Avnet; ComponentLink1Description: https://datasheet.ciiva.com/11612/product-11612712.pdf?src-supplier=Avnet; Case Code (Imperial): 0402
footprint SMD-CAP-0402-ME
pins: 1, 2

## CAP; 9pF; 0402; SMD; GJM1555C1H9R0BB01D
designator C?, comment value 9pF  Package: 0402  (hidden comment: 9 pF ±0.1pF 50V Ceramic Capacitor C0G, NP0 0402 (1005 Metric))
0402 9 pF 50 V ±0.1 pF Tolerance C0G SMT Multilayer Ceramic Capacitor; Manufacturer: Murata; Manufacturer Part Number: GJM1555C1H9R0BB01D; Material: 4241ConductorMaterial; Temperature Coefficient: 30ppm/°C; Supplier: Mouser; Supplier Part Number: 81-GJM1555C1H9R0BB1D; RoHS: Yes; Category: Ceramic Capacitors; Stock: 26141; Pricing: 1=0.1, 10=0.05, 50=0.05, 100=0.03, 1000=0.021, 10000=0.013 (USD); Mounting Technology: Surface Mount; Case/Package: 0402; Case Code (Imperial): 0402; Case Code (Metric): 1005; Min Operating Temperature: -55°C; Max Operating Temperature: 125°C; Package Quantity: 10000; Packaging: Tape and Reel; Voltage Rating: 50V; Dielectric: C0G; Termination: SMD/SMT; Voltage Rating (DC): 50V; Series: GJM; Construction: Flat; Length: 1mm; Width: 500um; Height: 0.5mm; Depth: 0.5mm; Thickness: 500um; Radiation Hardening: No; Lead Free: Lead Free; RoHS Compliant: Yes; ComponentLink1URL: https://datasheet.ciiva.com/11609/product-11609463.pdf?src-supplier=Avnet; ComponentLink1Description: https://datasheet.ciiva.com/11609/product-11609463.pdf?src-supplier=Avnet
footprint SMD-CAP-0402-ME
pins: 1, 2

## CAP; 9pF; 0603; 50V; CC0603BRNPO9BN9R0
designator C?, comment value 9pF  Package: 0603  (hidden comment: 9 pF ±0.1pF 50V Ceramic Capacitor C0G, NP0 0603 (1608 Metric))
Surface Mount Ceramic Multilayer Capacitor 9pF 0.1pF C0G 50V 0603 Paper T/R; Manufacturer: Yageo; Manufacturer Part Number: CC0603BRNPO9BN9R0; Supplier: Digikey; Supplier Part Number: 13-CC0603BRNPO9BN9R0CT-ND; RoHS: No; Category: Ceramic Capacitors; Stock: 11265; Pricing: 1=0.1, 10=0.053, 100=0.0312, 1000=0.02004 (USD)
footprint SMD-CAP-0603-YAGEO
pins: 1, 2

## CAP; 10pF; 50V; 0402; GJM1555C1H100FB01D
designator C?, comment value 10pF  Package: 0402  (hidden comment: Multilayer Ceramic Capacitor, 10 pF, 50 V, ï¿½ 1%, C0G (NP0), 0402 [1005 Metric])
Manufacturer: Murata; Manufacturer Part Number: GJM1555C1H100FB01D; Material: 4241ConductorMaterial; Temperature Coefficient: 30ppm/°C; Supplier: Digikey; Supplier Part Number: 490-11189-1-ND; RoHS: Yes; Category: Ceramic Capacitors; Stock: 196290; Pricing: 1=0.13, 10=0.075, 100=0.0455, 1000=0.03033, 2500=0.02674, 10000=0.02135, 20000=0.02011, 30000=0.02002, 50000=0.01934, 70000=0.01884, 100000=0.01837, 250000=0.01836 (USD); Lead Free: 5697LeadFree; ComponentLink1URL: https://datasheet.ciiva.com/11607/c02e-11607390.pdf?src-supplier=Avnet; ComponentLink1Description: https://datasheet.ciiva.com/11607/c02e-11607390.pdf?src-supplier=Avnet
footprint SMD-CAP-0402-ME
pins: 1, 2